# Altium schematic symbol library USB2513B_M2.SchLib: 1 symbol
Pins are listed as number, name and electrical type; pins without a type are passive.

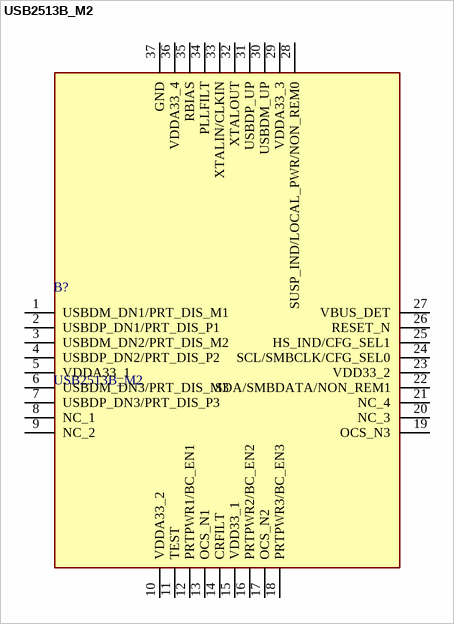
[diagram p0: symbol USB2513B_M2]

## USB2513B_M2
designator B?
USB Interface IC 3-Port USB 2.0 Hi-Speed Hub Cont; Manufacturer_Name: Microchip; Manufacturer_Part_Number: USB2513B/M2; Geometry.Height: 1mm; Mouser Part Number: 579-USB2513B/M2; Mouser Price/Stock: https://www.mouser.co.uk/ProductDetail/Microchip-Technology/USB2513B-M2?qs=uus7iwvxYD8fly9xV9Wytg%3D%3D; Arrow Part Number: USB2513B/M2; Arrow Price/Stock: https://www.arrow.com/en/products/usb2513bm2/microchip-technology?utm_currency=USD&region=nac; Datasheet Link: http://www.microchip.com/mymicrochip/filehandler.aspx?ddocname=en562310
footprint QFN50P600X600X100-37N-D
pins: 1 USBDM_DN1/PRT_DIS_M1, 2 USBDP_DN1/PRT_DIS_P1, 3 USBDM_DN2/PRT_DIS_M2, 4 USBDP_DN2/PRT_DIS_P2, 5 VDDA33_1, 6 USBDM_DN3/PRT_DIS_M3, 7 USBDP_DN3/PRT_DIS_P3, 8 NC_1, 9 NC_2, 10 VDDA33_2, 11 TEST, 12 PRTPWR1/BC_EN1, 13 OCS_N1, 14 CRFILT, 15 VDD33_1, 16 PRTPWR2/BC_EN2, 17 OCS_N2, 18 PRTPWR3/BC_EN3, 19 OCS_N3, 20 NC_3, 21 NC_4, 22 SDA/SMBDATA/NON_REM1, 23 VDD33_2, 24 SCL/SMBCLK/CFG_SEL0, 25 HS_IND/CFG_SEL1, 26 RESET_N, 27 VBUS_DET, 28 SUSP_IND/LOCAL_PWR/NON_REM0, 29 VDDA33_3, 30 USBDM_UP, 31 USBDP_UP, 32 XTALOUT, 33 XTALIN/CLKIN, 34 PLLFILT, 35 RBIAS, 36 VDDA33_4, 37 GND